# EAGLE library part LT1512 (library pizaid)
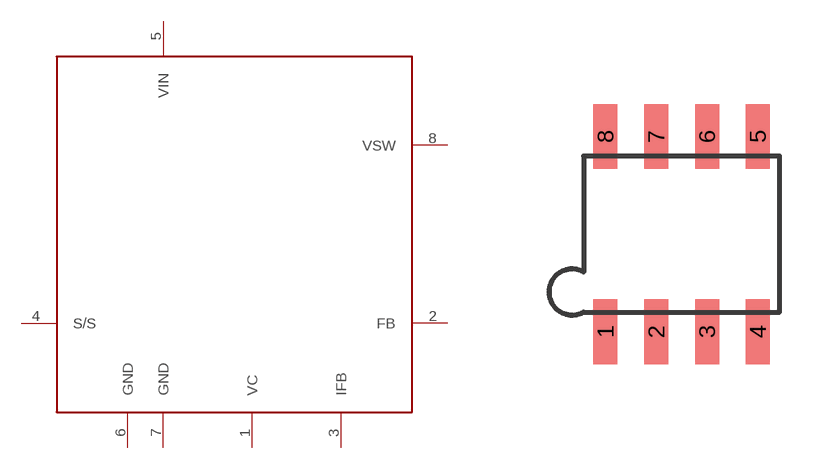
[diagram p0: symbol with the pads of SOP8; footprint SOP8]

Designator prefix -

## LT1512CS8  [SOP8]
1  VC  in
2  FB  in
3  IFB  in
4  S/S  in
5  VIN  pwr
6  GND  pwr
7  GND  pwr
8  VSW  pwr

## Footprint SOP8 (pad centres in mm)
smd 0.6 x 1.62: 1 -1.905,-2.44; 2 -0.635,-2.44; 3 0.635,-2.44; 4 1.905,-2.44; 5 1.905,2.44; 6 0.635,2.44; 7 -0.635,2.44; 8 -1.905,2.44